# Altium footprint library NCP115ASN330T2G.PcbLib: 3 footprints
Each footprint in its own frame and in the unit in brackets; x right, y up, seen from the top. Pads: shape width x height; smd on the part's side, far side on the other; paste and mask are expansions set on the pad; w line width, h text height; cw(c..) or ccw(c..) is an arc to the next point about the centre after c.
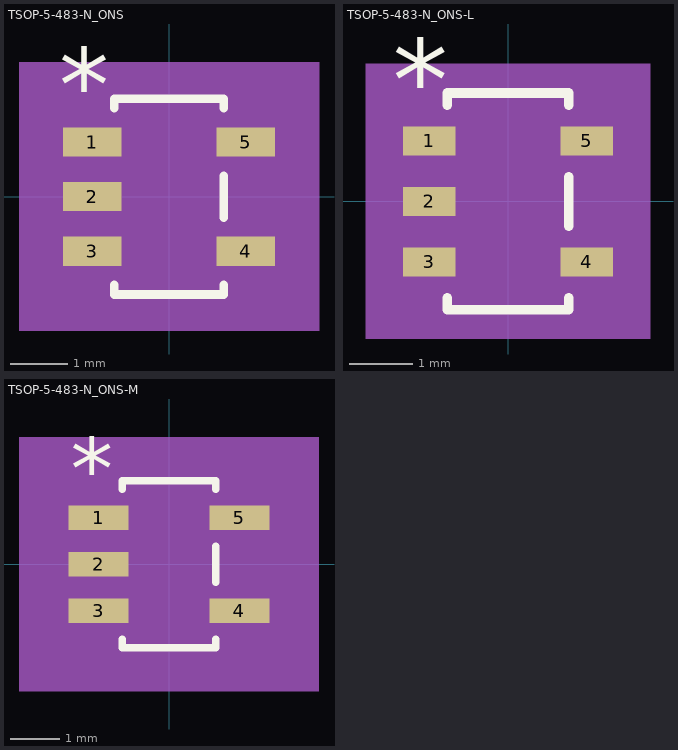
[diagram p0: the footprints below, top view; thin cyan lines are the x and y axes]

## TSOP-5-483-N_ONS [mil]
pads (5):
  rect 40.28x20 smd paste+0 mask+0: 1(-52.64,37.4) 2(-52.64,0) 3(-52.64,-37.4) 4(52.64,-37.4) 5(52.64,37.4)
Top Overlay:
  lines w6: -37.5,-60.5 -37.5,-67 37.5,-67 37.5,-60.5 ; -37.5,60.5 -37.5,67 37.5,67 37.5,60.5 ; 37.5,-14.3 37.5,14.3
  text "*" at -75.14,52.4 h50
Mechanical 5:
  region: 102.78,-92 -102.78,-92 -102.78,92 102.78,92
Mechanical 13:
  lines w0: -12,62 ccw(c0,62) 12,62
  lines w1: -59,-47.4 -59,-27.4 -32.5,-27.4 -32.5,-47.4 -59,-47.4 ; -59,-10 -59,10 -32.5,10 -32.5,-10 -59,-10 ; -59,27.4 -59,47.4 -32.5,47.4 -32.5,27.4 -59,27.4 ; -32.5,-62 32.5,-62 32.5,62 -32.5,62 -32.5,-62 ; 32.5,-47.4 32.5,-27.4 59,-27.4 59,-47.4 32.5,-47.4 ; 32.5,27.4 32.5,47.4 59,47.4 59,27.4 32.5,27.4
  text "*" at -35,9.4 h50
Mechanical 15:
  region: 47.5,-77 -47.5,-77 -47.5,-57.4 -84,-57.4 -84,57.4 -47.5,57.4 -47.5,77 47.5,77 47.5,57.4 84,57.4 84,-57.4 47.5,-57.4
  lines w6: -84,-57.4 -47.5,-57.4 -47.5,-77 47.5,-77 47.5,-57.4 84,-57.4 84,57.4 47.5,57.4 47.5,77 -47.5,77 -47.5,57.4 -84,57.4 -84,-57.4
3D body "TSOP-5-483-N_ONS.step": height 43.11, standoff 0, extent -59.02,-62.01 59.02,62.01

## TSOP-5-483-N_ONS-L [mm]
pads (5):
  rect 0.823x0.458 smd paste+0 mask+0: 1(-1.237,0.95) 2(-1.237,0) 3(-1.237,-0.95) 4(1.237,-0.95) 5(1.237,0.95)
Top Overlay:
  lines w0.152: -0.953,-1.512 -0.953,-1.702 0.953,-1.702 0.953,-1.512 ; -0.953,1.512 -0.953,1.702 0.953,1.702 0.953,1.512 ; 0.953,-0.388 0.953,0.388
  text "*" at -1.809,1.281 h1.27
Mechanical 5:
  region: 2.233,-2.159 -2.233,-2.159 -2.233,2.159 2.233,2.159
Mechanical 13:
  lines w0: -0.305,1.575 ccw(c0,1.575) 0.305,1.575
  lines w0.025: -1.499,-1.204 -1.499,-0.696 -0.826,-0.696 -0.826,-1.204 -1.499,-1.204 ; -1.499,-0.254 -1.499,0.254 -0.826,0.254 -0.826,-0.254 -1.499,-0.254 ; -1.499,0.696 -1.499,1.204 -0.826,1.204 -0.826,0.696 -1.499,0.696 ; -0.826,-1.575 0.826,-1.575 0.826,1.575 -0.826,1.575 -0.826,-1.575 ; 0.826,-1.204 0.826,-0.696 1.499,-0.696 1.499,-1.204 0.826,-1.204 ; 0.826,0.696 0.826,1.204 1.499,1.204 1.499,0.696 0.826,0.696
  text "*" at -0.889,0.189 h1.27
Mechanical 15:
  region: 1.029,-1.778 -1.029,-1.778 -1.029,-1.408 -1.931,-1.408 -1.931,1.408 -1.029,1.408 -1.029,1.778 1.029,1.778 1.029,1.408 1.931,1.408 1.931,-1.408 1.029,-1.408
  lines w0.152: -1.931,-1.408 -1.029,-1.408 -1.029,-1.778 1.029,-1.778 1.029,-1.408 1.931,-1.408 1.931,1.408 1.029,1.408 1.029,1.778 -1.029,1.778 -1.029,1.408 -1.931,1.408 -1.931,-1.408
3D body "TSOP-5-483-N_ONS.step": height 1.09, standoff 0, extent -1.499,-1.575 1.499,1.575

## TSOP-5-483-N_ONS-M [mil]
pads (5):
  rect 48.15x20 smd paste+0 mask+0: 1(-56.58,37.4) 2(-56.58,0) 3(-56.58,-37.4) 4(56.58,-37.4) 5(56.58,37.4)
Top Overlay:
  lines w6: -37.5,-60.5 -37.5,-67 37.5,-67 37.5,-60.5 ; -37.5,60.5 -37.5,67 37.5,67 37.5,60.5 ; 37.5,-14.3 37.5,14.3
  text "*" at -79.08,52.4 h50
Mechanical 5:
  region: 120.65,-102 -120.65,-102 -120.65,102 120.65,102
Mechanical 13:
  lines w0: -12,62 ccw(c0,62) 12,62
  lines w1: -59,-47.4 -59,-27.4 -32.5,-27.4 -32.5,-47.4 -59,-47.4 ; -59,-10 -59,10 -32.5,10 -32.5,-10 -59,-10 ; -59,27.4 -59,47.4 -32.5,47.4 -32.5,27.4 -59,27.4 ; -32.5,-62 32.5,-62 32.5,62 -32.5,62 -32.5,-62 ; 32.5,-47.4 32.5,-27.4 59,-27.4 59,-47.4 32.5,-47.4 ; 32.5,27.4 32.5,47.4 59,47.4 59,27.4 32.5,27.4
  text "*" at -35,9.4 h50
Mechanical 15:
  region: 57.5,-87 -57.5,-87 -57.5,-57.4 -94,-57.4 -94,57.4 -57.5,57.4 -57.5,87 57.5,87 57.5,57.4 94,57.4 94,-57.4 57.5,-57.4
  lines w6: -94,-57.4 -57.5,-57.4 -57.5,-87 57.5,-87 57.5,-57.4 94,-57.4 94,57.4 57.5,57.4 57.5,87 -57.5,87 -57.5,57.4 -94,57.4 -94,-57.4
3D body "TSOP-5-483-N_ONS.step": height 43.11, standoff 0, extent -59.02,-62.01 59.02,62.01